# Altium schematic symbol library SCH - POWER - LINEAR VREG - TI TPS7A2601DRV.SchLib: 1 symbol
Pins are listed as number, name and electrical type; pins without a type are passive.

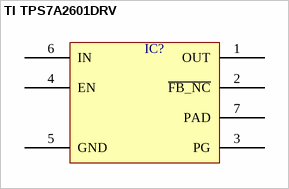
[diagram p0: symbol TI TPS7A2601DRV]

## TI TPS7A2601DRV
designator IC?  (value not drawn)
pins: 1 OUT, 2 ~{FB_NC}, 3 PG, 4 EN, 5 GND, 6 IN, 7 PAD